# Altium schematic symbol library VEML6040A3OG.SchLib: 1 symbol
Pins are listed as number, name and electrical type; pins without a type are passive.

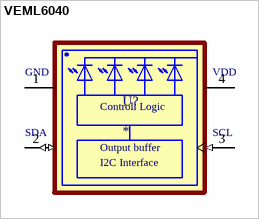
[diagram p0: symbol VEML6040]

## VEML6040
designator U?
<b>VEML6040</b>  <p> RGBW Color Sensor with I2C Interface: <ul>   VEML6040 color sensor senses red, green, blue, and white light and incorporates photodiodes, amplifiers, and analog / digital circuits into a single chip using CMOS process. With the color sensor applied, the brightness, and color temperature of backlight can be adjusted base on ambient light source that makes panel looks more comfortable for end userâ€™s eyes. VEML6040â€™s adoption of FiltronTM technology achieves the closest ambient light spectral sensitivity to real human eye responses.  <ul> Device Model created 15.06.2016 by Johannes Kolb - Vishay Semiconductor GmbH; MF: {'manufacturer': u'Vishay'}; Price: None; Availability: Unavailable; Package: None; Value: *; MP: VEML6040
footprint VISHAY_VEML6040_1.25X2X1
pins: 1 GND (power), 2 SDA (io), 3 SCL (in), 4 VDD (power)
text: Controll Logic; Output buffer; I2C Interface